# Altium footprint library Footprint.PcbLib: 97 footprints (part 4 of 7)
Each footprint in its own frame and in the unit in brackets; x right, y up, seen from the top. Pads: shape width x height; smd on the part's side, far side on the other; paste and mask are expansions set on the pad; w line width, h text height; cw(c..) or ccw(c..) is an arc to the next point about the centre after c.
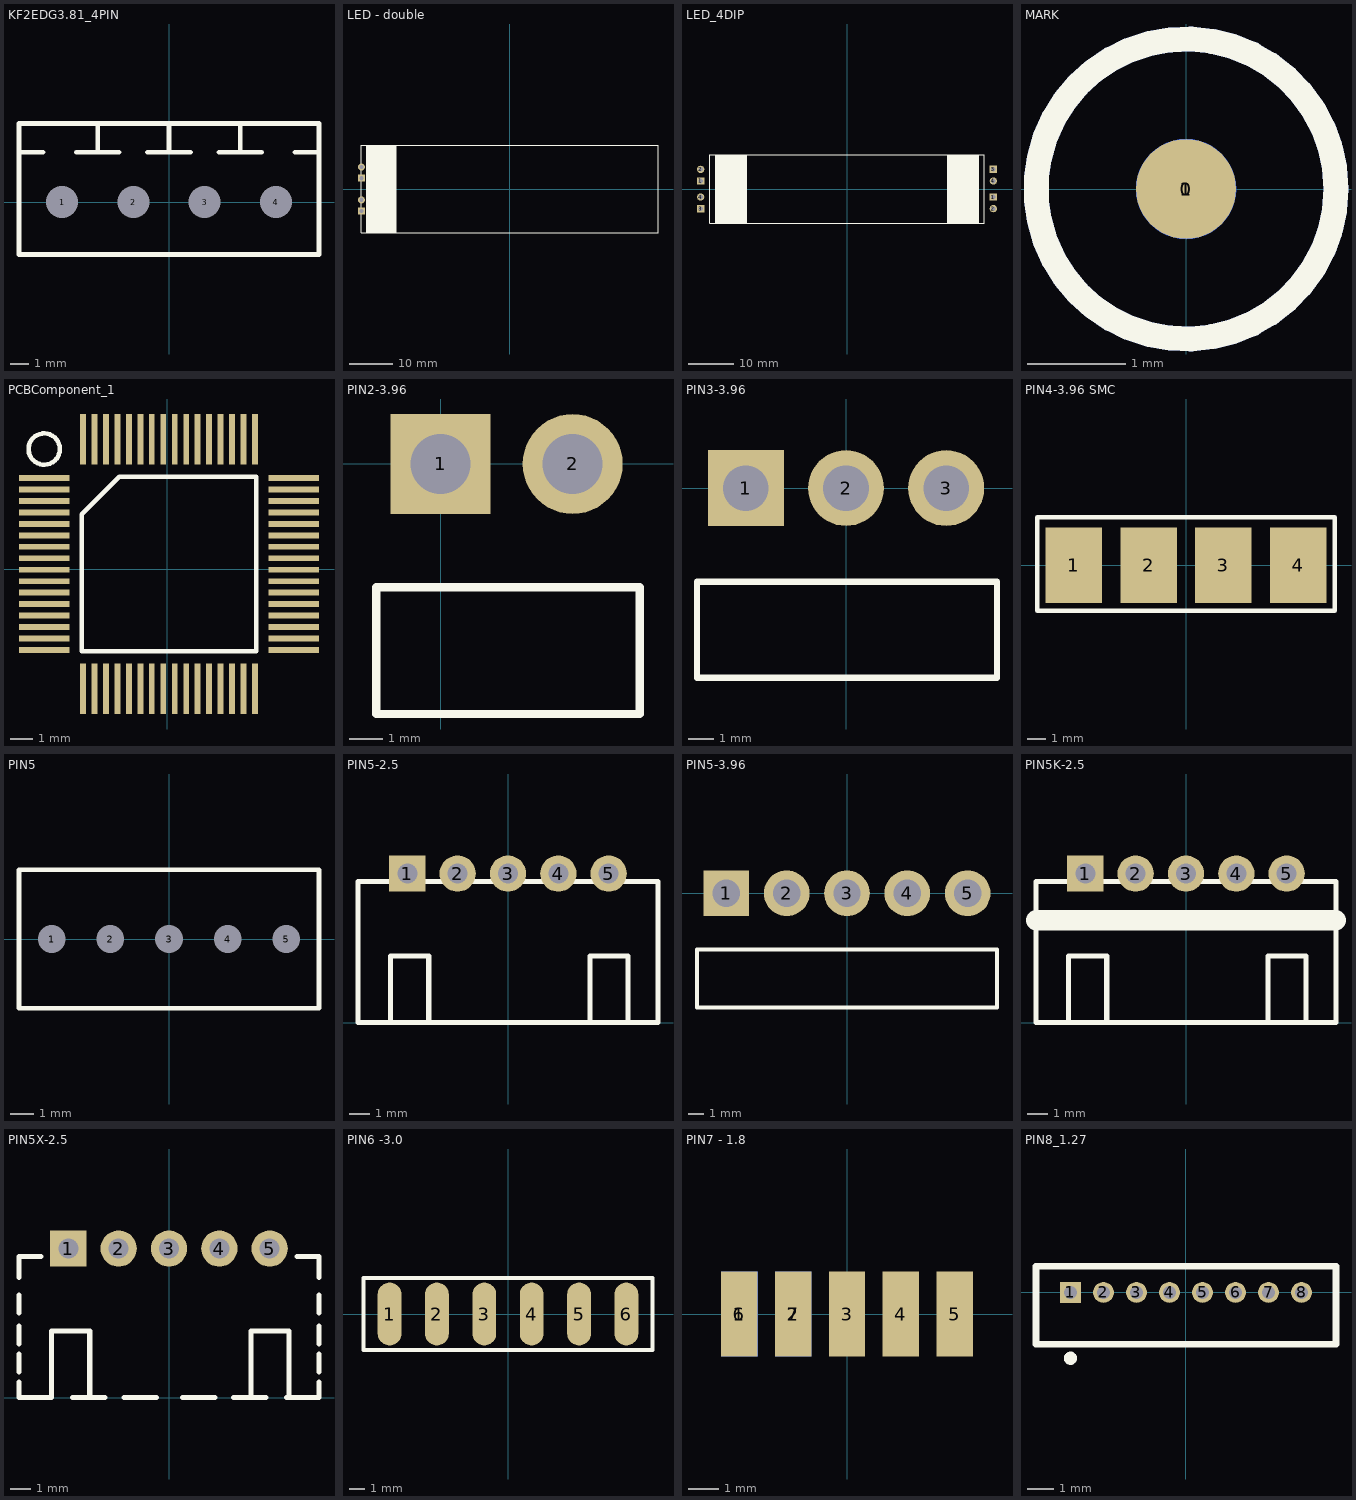
[diagram p3: the footprints below, top view; thin cyan lines are the x and y axes]

## KF2EDG3.81_4PIN [mm]
pads (4):
  rect 0.85x0.55 hole 1.7: 1(-5.715,0)
  oval 0.85x0.55 hole 1.7: 2(-1.905,0) 3(1.905,0) 4(5.715,0)
Top Overlay:
  lines w0.254: -8.02,2.667 -6.731,2.667 ; -4.953,2.667 -2.667,2.667 ; -3.81,2.667 -3.81,4.2 ; -1.143,2.667 1.143,2.667 ; 0,2.667 0,4.2 ; 2.667,2.667 4.953,2.667 ; 3.81,2.667 3.81,4.2 ; 6.731,2.667 8.02,2.667 ; -8.02,-2.8 -8.02,4.2 8.02,4.2 8.02,-2.8 -8.02,-2.8

## LED - double [mm]
pads (4):
  rect 1.6x1.6 hole 1: 1(-34,-5.04) 1(-34,2.5)
  round 1.6 hole 1: 2(-34,-2.5) 2(-34,5.04)
Top Overlay:
  rectangle: -32.984,-10.033 -25.999,10.033
  lines w0.127: -34,1.524 -34,-10 34,-10 34,10 -34,10 -34,1.546 ; -26,-10 -26,10

## LED_4DIP [mm]
pads (8):
  rect 1.6x1.6 hole 1: 1(-32,1.75) 1(32,-1.75) 3(-32,-4.29) 3(32,4.29)
  round 1.6 hole 1: 2(-32,4.29) 2(32,-4.29) 4(-32,-1.75) 4(32,1.75)
Top Overlay:
  rectangle: 21.844,-7.493 28.829,7.493
  rectangle: -28.829,-7.493 -21.844,7.493
  lines w0.127: -30,-7.493 29.972,-7.493 29.972,7.493 -30,7.493 -30,-7.493

## MARK [mil]
pads (4):
  round 40 smd: 0(0,0)
  round 40 smd far side: 0(0,0)
  round 120 on Top Solder: 1(0,0)
  round 120 on Bottom Solder: 1(0,0)
Bottom Layer:
  circle w10: c0,0 r60
Top Overlay:
  circle w10: c0,0 r60

## PCBComponent_1 [mm]
pads (64):
  rect 2.2x0.254 smd: 1(-5.367,3.97) 2(-5.367,3.47) 3(-5.367,2.97) 4(-5.367,2.47) 5(-5.367,1.97) 6(-5.367,1.47) 7(-5.367,0.97) 8(-5.367,0.47) 9(-5.367,-0.03) 10(-5.367,-0.53) 11(-5.367,-1.03) 12(-5.367,-1.53) 13(-5.367,-2.03) 14(-5.367,-2.53) 15(-5.367,-3.03) 16(-5.367,-3.53) 33(5.533,-3.53) 34(5.533,-3.03) 35(5.533,-2.53) 36(5.533,-2.03) 37(5.533,-1.53) 38(5.533,-1.03) 39(5.533,-0.53) 40(5.533,-0.03) 41(5.533,0.47) 42(5.533,0.97) 43(5.533,1.47) 44(5.533,1.97) 45(5.533,2.47) 46(5.533,2.97) 47(5.533,3.47) 48(5.533,3.97)
  rect 0.254x2.2 smd: 17(-3.667,-5.23) 18(-3.167,-5.23) 19(-2.667,-5.23) 20(-2.167,-5.23) 21(-1.667,-5.23) 22(-1.167,-5.23) 23(-0.667,-5.23) 24(-0.167,-5.23) 25(0.333,-5.23) 26(0.833,-5.23) 27(1.333,-5.23) 28(1.833,-5.23) 29(2.333,-5.23) 30(2.833,-5.23) 31(3.333,-5.23) 32(3.833,-5.23) 49(3.833,5.67) 50(3.333,5.67) 51(2.833,5.67) 52(2.333,5.67) 53(1.833,5.67) 54(1.333,5.67) 55(0.833,5.67) 56(0.333,5.67) 57(-0.167,5.67) 58(-0.667,5.67) 59(-1.167,5.67) 60(-1.667,5.67) 61(-2.167,5.67) 62(-2.667,5.67) 63(-3.167,5.67) 64(-3.667,5.67)
Top Overlay:
  circle w0.2: c-5.367,5.24 r0.684
  lines w0.2: -3.732,-3.595 3.898,-3.595 3.898,4.035 -2.097,4.035 -3.732,2.4 -3.732,-3.595

## PIN2-3.96 [mm]
pads (2):
  rect 3x3 hole 1.8: 1(0,0)
  round 3 hole 1.8: 2(3.96,0)
Top Overlay:
  lines w0.254: -1.93,-7.5 5.969,-7.5 5.969,-3.7 -1.93,-3.7 -1.93,-7.5

## PIN3-3.96 [mm]
pads (3):
  rect 3x3 hole 1.8: 1(-3.96,0)
  round 3 hole 1.8: 2(0,0) 3(3.96,0)
Top Overlay:
  lines w0.254: -5.89,-7.5 5.969,-7.5 5.969,-3.7 -5.89,-3.7 -5.89,-7.5

## PIN4-3.96 SMC [mm]
pads (4):
  rect 3x4 smd: 1(-5.94,0) 2(-1.98,0) 3(1.98,0) 4(5.94,0)
Top Overlay:
  lines w0.254: -7.874,-2.413 -7.874,2.54 -7.62,2.54 7.874,2.54 7.874,-2.413 -7.874,-2.413

## PIN5 [mm]
pads (5):
  rect 0.85x0.55 hole 1.2: 1(-5.08,0)
  oval 0.85x0.55 hole 1.2: 2(-2.54,0) 3(0,0) 4(2.54,0) 5(5.08,0)
Top Overlay:
  lines w0.2: -6.5,-3 6.5,-3 6.5,3 -6.5,3 -6.5,-3

## PIN5-2.5 [mm]
pads (5):
  rect 1.8x1.8 hole 1: 1(-5,7.4)
  round 1.8 hole 1: 2(-2.5,7.4) 3(0,7.4) 4(2.5,7.4) 5(5,7.4)
Top Overlay:
  lines w0.254: -5.842,0 -5.842,3.302 -3.937,3.302 -3.937,0 ; 4.064,0 4.064,3.302 5.969,3.302 5.969,0 ; -7.45,0 -7.45,7 7.45,7 7.45,0 -7.45,0

## PIN5-3.96 [mm]
pads (5):
  rect 3x3 hole 1.8: 1(-7.92,0)
  round 3 hole 1.8: 2(-3.96,0) 3(0,0) 4(3.96,0) 5(7.92,0)
Top Overlay:
  lines w0.254: -9.85,-7.5 9.85,-7.5 9.85,-3.7 -9.85,-3.7 -9.85,-7.5

## PIN5K-2.5 [mm]
pads (5):
  rect 1.8x1.8 hole 1: 1(-5,7.4)
  round 1.8 hole 1: 2(-2.5,7.4) 3(0,7.4) 4(2.5,7.4) 5(5,7.4)
Top Overlay:
  lines w0.254: -5.842,0 -5.842,3.302 -3.937,3.302 -3.937,0 ; 4.064,0 4.064,3.302 5.969,3.302 5.969,0 ; -7.45,0 -7.45,7 7.45,7 7.45,0 -7.45,0
  lines w1: -7.45,5.08 7.45,5.08

## PIN5X-2.5 [mm]
pads (5):
  rect 1.8x1.8 hole 1: 1(-5,7.4)
  round 1.8 hole 1: 2(-2.5,7.4) 3(0,7.4) 4(2.5,7.4) 5(5,7.4)
Top Overlay:
  lines w0.254: -7.45,0.762 -7.45,0 -5.842,0 -5.842,3.302 -3.937,3.302 -3.937,0 ; -7.45,1.27 -7.45,2.159 ; -7.45,2.667 -7.45,3.556 ; -7.45,4.191 -7.45,5.08 ; -6.35,7 -7.45,7 ; -4.783,0 -3.175,0 ; -2.243,0 -0.635,0 ; 0.678,0 2.286,0 ; 3.218,0 4.826,0 ; 4.064,0 4.064,3.302 5.969,3.302 5.969,0 ; 5.842,0 7.45,0 7.45,0.762 ; 6.35,7 7.45,7 7.45,5.969 ; 7.45,1.27 7.45,2.159 ; 7.45,2.667 7.45,3.556 ; 7.45,4.191 7.45,5.08 ; -7.45,7 -7.45,5.969 -7.45,7

## PIN6 -3.0 [mm]
pads (6):
  oval 1.5x4 smd: 1(-7.5,0) 2(-4.5,0) 3(-1.5,0) 4(1.5,0) 5(4.5,0) 6(7.5,0)
Top Overlay:
  lines w0.254: -9.144,-2.286 9.144,-2.286 9.144,2.286 -9.144,2.286 -9.144,-2.286

## PIN7 - 1.8 [mm]
pads (7):
  rect 1.2x2.8 smd: 1(-3.556,0) 2(-1.778,0) 3(0,0) 4(1.778,0) 5(3.556,0)
  rect 1.2x2.8 smd far side: 6(-3.556,0) 7(-1.778,0)

## PIN8_1.27 [mm]
pads (8):
  rect 0.8x0.8 hole 0.5: 1(-4.445,0)
  round 0.8 hole 0.5: 2(-3.175,0) 3(-1.905,0) 4(-0.635,0) 5(0.635,0) 6(1.905,0) 7(3.175,0) 8(4.445,0)
Top Overlay:
  circle w0.254: c-4.445,-2.532 r0.127
  lines w0.254: -5.77,-2 -5.77,1 5.77,1 5.77,-2 -5.77,-2